# Altium schematic symbol library Schlib.SchLib: 24 symbols
Pins are listed as number, name and electrical type; pins without a type are passive.

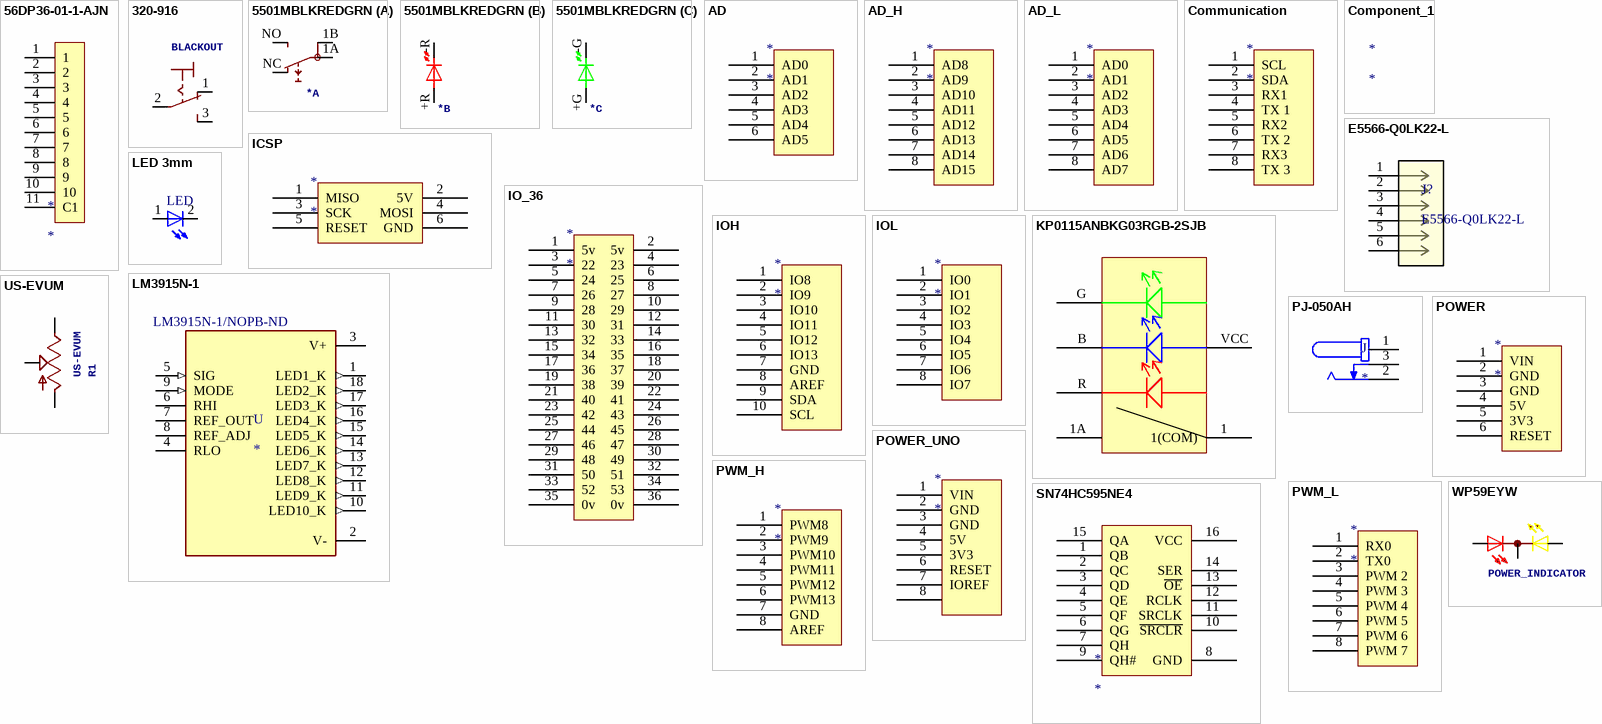
[diagram p0: symbols 56DP36-01-1-AJN to WP59EYW]

## 56DP36-01-1-AJN
designator *
Switch Rotary SP Flatted Shaft PC Pins 0.2A 115VAC 30VDC; Manufacturer 1: Grayhill; Manufacturer Part Number 1: 56DP36-01-1-AJN; Max Current Rating: 200mA; Voltage Rating (DC): 30V; Throw Configuration: SP,SP10T; Voltage Rating (AC): 115V; Contact Resistance: 15mR; Number of Poles: 1; Contact Style: Non-Shorting; Index Angle: 36°; Illumination Type: Illuminated; Index Stops: Adjustable; Actuator Length: 9.53mm; Supplier 1: Digi-Key; Stock 1: 1317; Pricing 1: 1=12.16000, 5=10.45800, 10=9.77800, 25=8.96720, 50=8.36600, 100=7.84320, 250=7.29600 (USD); RoHS: Yes; Mount: Through Hole,Panel; Number of Pins: 10; Housing Material: Plastic; Contact Material: Brass; Contact Plating: Silver; Max Voltage Rating (DC): 30V; Max Voltage Rating (AC): 115V; Contact Current Rating: 200mA; Number of Decks: 1; Number of Poles per Deck: 1; Termination: PC Pins; Orientation: Straight; Current Rating: 200mA; Actuator Type: Shaft; Diameter: 12.7mm; Length: 12.7mm; Depth: 12.7mm; REACH SVHC: No SVHC; Lead Free: Lead Free; ComponentLink1URL: https://datasheet.ciiva.com/15184/getdatasheetpartid-644553-15184288.pdf?src-supplier=Verical; ComponentLink1Description: https://datasheet.ciiva.com/15184/getdatasheetpartid-644553-15184288.pdf?src-supplier=Verical; ComponentLink2URL: https://datasheet.ciiva.com/2887/rotary-56-2887321.pdf?src-supplier=Digi-Key; ComponentLink2Description: https://datasheet.ciiva.com/2887/rotary-56-2887321.pdf?src-supplier=Digi-Key; ComponentLink3URL: https://datasheet.ciiva.com/1532/20298-1532172.pdf?src-supplier=Element14; ComponentLink3Description: https://datasheet.ciiva.com/1532/20298-1532172.pdf?src-supplier=Element14; ComponentLink4URL: https://datasheet.ciiva.com/30101/219rotary-561-30101036.pdf?src-supplier=Onlinecomponents.com; ComponentLink4Description: https://datasheet.ciiva.com/30101/219rotary-561-30101036.pdf?src-supplier=Onlinecomponents.com; Supplier Part Number 1: GH7281-ND
footprint 56DP36-01-1-AJN
pins: 1, 2, 3, 4, 5, 6, 7, 8, 9, 10, 11 C1

## 320-916
designator BLACKOUT, comment 5636AB9  (value not drawn)
SWITCH TOGGLE SPDT 6A 125V; Manufacturer 1: APEM; Manufacturer Part Number 1: 5636A9; Actuator Material: Nylon,Polyamide,Brass; Mechanical Life: 100000Cycles; Contact Current Rating: 4A; Voltage Rating (DC): 30V; Contact Resistance: 10mR; Max Voltage Rating (AC): 250V; Illumination Type: Non-Illuminated,Illuminated; Electrical Life: 50000Cycles; Switch Function: On-On; Actuator Length: 11.4mm; ComponentLink1URL: https://datasheet.ciiva.com/7986/94098-7986892.pdf?src-supplier=Element14; ComponentLink1Description: https://datasheet.ciiva.com/7986/94098-7986892.pdf?src-supplier=Element14; ComponentLink2URL: https://datasheet.ciiva.com/14142/03522208-14142796.pdf?src-supplier=Distrelec; ComponentLink2Description: https://datasheet.ciiva.com/14142/03522208-14142796.pdf?src-supplier=Distrelec; Supplier 1: Mouser; Stock 1: 294; Pricing 1: 1=8.04000, 25=7.62000, 50=7.19000, 100=6.98000, 250=5.92000, 500=5.71000 (USD); RoHS: Yes; Mount: Panel; Case/Package: 125; Housing Material: Stainless Steel; Contact Material: Silver; Min Operating Temperature: -40°C; Max Operating Temperature: 85°C; Voltage Rating (AC): 125V; Throw Configuration: SPDT; Package Quantity: 50; Current Rating: 4A; Packaging: Bulk; Max Current Rating: 6A; Max Voltage Rating (DC): 30V; Orientation: Straight; Termination: Solder; Length: 13.2mm; REACH SVHC: No SVHC; ComponentLink3URL: https://datasheet.ciiva.com/1533/1697793-1533110.pdf?src-supplier=Element14; ComponentLink3Description: https://datasheet.ciiva.com/1533/1697793-1533110.pdf?src-supplier=Element14; Supplier Part Number 1: 642-5636A9
footprint 320-916
pins: 1 O, 2 P, 3 S

## 5501MBLKREDGRN
designator *, comment 55?-2LED01  (value not drawn)
Pushbutton Switch SPDT Keyswitch, Illuminated Through Hole; Manufacturer 1: E-Switch; Manufacturer Part Number 1: 5501MBLKREDGRN; Mechanical Life: 500000Cycles; Illumination Type: LED; Actuator Type: Square, Button; Switch Function: On-Mom; Voltage Rating (DC): 12V; Current Rating: 300mA; Supplier 1: Digi-Key; Stock 1: 420; Pricing 1: 1=5.08000, 10=4.53000, 25=4.28800, 50=4.13420, 100=3.93620, 250=3.76028, 500=3.43044, 1000=3.25452 (USD); RoHS: Yes; Mount: Through Hole; Min Operating Temperature: -25°C; Max Operating Temperature: 65°C; Packaging: Bulk; Termination: PC Pin; Throw Configuration: SPDT; Package Quantity: 500; ComponentLink1URL: https://datasheet.ciiva.com/2870/xr0104p-2870260.pdf?src-supplier=Digi-Key; ComponentLink1Description: https://datasheet.ciiva.com/2870/xr0104p-2870260.pdf?src-supplier=Digi-Key; Supplier Part Number 1: EG171571-ND
footprint 5501-2LED
part A pins: 1A, 1B, NC, NO
part B pins: +R A, -R K
part C pins: +G A, -G K

## AD
designator *
footprint Header 6x1 8.5mm (Stackable 6 pin header)
pins: 1 AD0, 2 AD1, 3 AD2, 4 AD3, 5 AD4, 6 AD5

## AD_H
designator *
footprint Header 8x1 8.5mm (Stackable 8 pin header)
pins: 1 AD8, 2 AD9, 3 AD10, 4 AD11, 5 AD12, 6 AD13, 7 AD14, 8 AD15

## AD_L
designator *
footprint Header 8x1 8.5mm (Stackable 8 pin header)
pins: 1 AD0, 2 AD1, 3 AD2, 4 AD3, 5 AD4, 6 AD5, 7 AD6, 8 AD7

## Communication
designator *
footprint Header 8x1 8.5mm (Stackable 8 pin header)
pins: 1 SCL, 2 SDA, 3 RX1, 4 TX 1, 5 RX2, 6 TX 2, 7 RX3, 8 TX 3

## Component_1
designator *

## E5566-Q0LK22-L
designator J?
CONN MOD JACK 6P6C R/A UNSHLD; Manufacturer 1: Pulse; Built_By: EMA_Don; Vendor: Pulse Electronics Corporation; SourceLibrary: Pulse_Electronics_2018-08-17; Number of Ports: 1; Direction: Up; Number of Contacts: 6; Shielding: Unshielded; Pitch: 1.02mm; Copyright: Copyright (C) 2016 Accelerated Designs. All rights reserved; Manufacturer_Part_Number: E5566-Q0LK22-L; RefDes: RefDes; Type: DEV; Supplier 1: Digi-Key; Manufacturer Part Number 1: E5566-Q0LK22-L; Stock 1: 13841; Pricing 1: 1=0.54000, 10=0.51000, 25=0.45920, 50=0.40800, 100=0.39100, 250=0.35700, 500=0.34000, 1000=0.28050, 2500=0.25500 (USD); RoHS: Yes; Mount: Through Hole; Housing Material: Nylon; Contact Plating: Gold; Contact Material: Bronze; Min Operating Temperature: -40°C; Max Operating Temperature: 85°C; Termination: Solder; Packaging: Bulk; Package Quantity: 4080; Orientation: Right Angle; Number of Rows: 1; Connector Type: Jack; Radiation Hardening: No; ComponentLink1URL: https://datasheet.ciiva.com/686/+ce553027-lc-686555.pdf?src-supplier=Digi-Key; ComponentLink1Description: https://datasheet.ciiva.com/686/+ce553027-lc-686555.pdf?src-supplier=Digi-Key; Supplier Part Number 1: 553-2258-ND
footprint E5566Q0LK22L
pins: 1, 2, 3, 4, 5, 6

## ICSP
designator *
footprint ICSP
pins: 1 MISO, 2 5V (power), 3 SCK, 4 MOSI, 5 RESET, 6 GND (power)

## IO_36
designator *
footprint HEADER 36X 8MM (Stackable 10 pin header)
pins: 1 5v, 2 5v, 3 22 "Digital 22", 4 23 "Digital 23", 5 24 "Digital 24", 6 25 "Digital 25", 7 26 "Digital 26", 8 27 "Digital 27", 9 28 "Digital 28", 10 29 "Digital 29", 11 30 "Digital 30", 12 31 "Digital 31", 13 32 "Digital 32", 14 33 "Digital 33", 15 34 "Digital 34", 16 35 "Digital 35", 17 36 "Digital 36", 18 37 "Digital 37", 19 38 "Digital 38", 20 39 "Digital 39", 21 40 "Digital 40", 22 41 "Digital 41", 23 42 "Digital 42", 24 43 "Digital 43", 25 44 "Digital 44", 26 45 "Digital 45", 27 46 "Digital 46", 28 47 "Digital 47", 29 48 "Digital 48", 30 49 "Digital 49", 31 50 "Digital 50", 32 51 "Digital 51", 33 52 "Digital 52", 34 53 "Digital 53", 35 0v, 36 0v

## IOH
designator *
footprint Header 10x1 8.5mm (Stackable 10 pin header)
pins: 1 IO8, 2 IO9, 3 IO10, 4 IO11, 5 IO12, 6 IO13, 7 GND, 8 AREF, 9 SDA, 10 SCL

## IOL
designator *
footprint Header 8x1 8.5mm (Stackable 8 pin header)
pins: 1 IO0, 2 IO1, 3 IO2, 4 IO3, 5 IO4, 6 IO5, 7 IO6, 8 IO7

## KP0115ANBKG03RGB-2SJB
designator U$1  (value not drawn)
Pushbutton Switch SPST-NO Standard, Illuminated Through Hole; Manufacturer 1: NKK Switches; Actuator Material: Polyacetal; Mechanical Life: 5000000Cycles; Illumination Color: Blue,Green,Red; Throw Configuration: SPST; Max Current Rating: 100mA; Illumination Type: LED; Voltage Rating (DC): 12V; Actuator Type: Square, Button; Switch Function: Off-Mom; Supplier 1: Digi-Key; Manufacturer Part Number 1: KP0115ANBKG03RGB-2SJB; Stock 1: 22; Pricing 1: 1=20.27000, 10=18.40500, 25=17.57800, 50=16.64740, 100=16.02700, 250=14.99300, 500=12.40800 (USD); RoHS: Yes; Mount: Through Hole; Contact Material: Stainless Steel; Contact Plating: Gold; Housing Material: Glass fibre; Min Operating Temperature: -25°C; Max Operating Temperature: 50°C; Current Rating: 100mA; Package Quantity: 1; Packaging: Bulk; Max Voltage Rating (DC): 12V; Termination: PC Pins; Electrical Life: 5000000Cycles; Length: 17.4mm; Depth: 17.4mm; Lead Free: Lead Free; ComponentLink1URL: https://datasheet.ciiva.com/16864/70192969-16864678.pdf?src-supplier=Allied+Electronics; ComponentLink1Description: https://datasheet.ciiva.com/16864/70192969-16864678.pdf?src-supplier=Allied+Electronics; ComponentLink2URL: https://datasheet.ciiva.com/2870/kp01-2870071.pdf?src-supplier=Digi-Key; ComponentLink2Description: https://datasheet.ciiva.com/2870/kp01-2870071.pdf?src-supplier=Digi-Key; Supplier Part Number 1: 360-2465-ND
footprint KP0115ANBKG03RGB-2SJB
pins: 1 1(COM), 1A, B B(-), G G(-), R R(-), VCC 3V3

## LED 3mm
designator LED  (value not drawn)
LED RED DIFFUSED T-1 3/4 T/H; Manufacturer 1: Kingbright; Manufacturer Part Number 1: WP7113ID; Forward Voltage: 2V; Luminous Intensity: 45mcd; Dominant Wavelength: 625nm; Test Current: 10mA; Viewing Angle: 30°; Lens Style: Diffused,Tinted,Dome,Round; ComponentLink1URL: https://datasheet.ciiva.com/15117/getdatasheetpartid-103986-15117447.pdf?src-supplier=Verical; ComponentLink1Description: https://datasheet.ciiva.com/15117/getdatasheetpartid-103986-15117447.pdf?src-supplier=Verical; ComponentLink2URL: https://datasheet.ciiva.com/25764/ltst-c170tbkt-25764828.pdf?src-supplier=Allied+Electronics; ComponentLink2Description: https://datasheet.ciiva.com/25764/ltst-c170tbkt-25764828.pdf?src-supplier=Allied+Electronics; ComponentLink3URL: https://datasheet.ciiva.com/12400/lite-on-ltst-c170tbkt-190169-12400787.pdf?src-supplier=Mouser; ComponentLink3Description: https://datasheet.ciiva.com/12400/lite-on-ltst-c170tbkt-190169-12400787.pdf?src-supplier=Mouser; ComponentLink4URL: https://datasheet.ciiva.com/27055/1996161-27055955.pdf?src-supplier=Jameco; ComponentLink4Description: https://datasheet.ciiva.com/27055/1996161-27055955.pdf?src-supplier=Jameco; ComponentLink5URL: https://datasheet.ciiva.com/11773/0900766b80dc0281-11773879.pdf?src-supplier=RSComponents; ComponentLink5Description: https://datasheet.ciiva.com/11773/0900766b80dc0281-11773879.pdf?src-supplier=RSComponents; ComponentLink6URL: https://datasheet.ciiva.com/16199/lite-on20ltst-c170tbkt-16199611.pdf?src-supplier=Future+Electronics; ComponentLink6Description: https://datasheet.ciiva.com/16199/lite-on20ltst-c170tbkt-16199611.pdf?src-supplier=Future+Electronics; ComponentLink7URL: https://datasheet.ciiva.com/2110/s-110-ltst-c170tbkt-2110488.pdf?src-supplier=Digi-Key; ComponentLink7Description: https://datasheet.ciiva.com/2110/s-110-ltst-c170tbkt-2110488.pdf?src-supplier=Digi-Key; ComponentLink8URL: https://datasheet.ciiva.com/2110/s-110-ltst-c170tbkt-2110489.pdf?src-supplier=Digi-Key; ComponentLink8Description: https://datasheet.ciiva.com/2110/s-110-ltst-c170tbkt-2110489.pdf?src-supplier=Digi-Key; ComponentLink9URL: https://datasheet.ciiva.com/2110/s-110-ltst-c170tbkt-2110490.pdf?src-supplier=Digi-Key; ComponentLink9Description: https://datasheet.ciiva.com/2110/s-110-ltst-c170tbkt-2110490.pdf?src-supplier=Digi-Key; Supplier 1: Digi-Key; Stock 1: 100478; Pricing 1: 1=0.48000, 10=0.34200, 100=0.15200, 500=0.10640, 1000=0.08740, 2500=0.07600, 5000=0.06840, 10000=0.06080, 25000=0.05700 (USD); RoHS: Yes; Mount: Through Hole; Case/Package: Radial; Color: Red; Lens Color: Red; Illumination Color: Red; Wavelength: 625nm; Package Quantity: 1000; Packaging: Bulk; Height: 8.6mm; Lead Free: Lead Free; ComponentLink10URL: https://datasheet.ciiva.com/4692/wp7113id-48891-4692862.pdf?src-supplier=Mouser; ComponentLink10Description: https://datasheet.ciiva.com/4692/wp7113id-48891-4692862.pdf?src-supplier=Mouser; ComponentLink11URL: https://datasheet.ciiva.com/2114/wp7113id-2114384.pdf?src-supplier=Digi-Key; ComponentLink11Description: https://datasheet.ciiva.com/2114/wp7113id-2114384.pdf?src-supplier=Digi-Key; ComponentLink12URL: https://datasheet.ciiva.com/16210/wp7113id-16210118.pdf?src-supplier=Future+Electronics; ComponentLink12Description: https://datasheet.ciiva.com/16210/wp7113id-16210118.pdf?src-supplier=Future+Electronics; Supplier Part Number 1: 754-1264-ND
footprint LED3mm (LED3MM)
pins: 1, 2

## LM3915N-1
designator U  Supplier Part Number 1: LM3915N-1/NOPB-ND
LED, LCD, Vacuum Fluorescent _VF_ Driver 18-DIP; Manufacturer 1: TI National Semiconductor; Manufacturer Part Number 1: LM3915N-1/NOPB; MF: Texas Instruments; MP: LM3915N-1; Output Current: 30mA; Output Voltage: 1.28V; Max Output Voltage: 1.34V; Min Supply Voltage: 3V; Max Supply Voltage: 25V; Max Power Dissipation: 1.365W; Number of Outputs: 10; Nominal Supply Current: 9.2mA; SnapEDA_Link: https://www.snapeda.com/parts/LM3915N-1/Texas%20Instruments/view-part/490766/?ref=snap; Price: None; Availability: Unavailable; Package: DIP-18 Texas Instruments; Value: *; Supplier 1: Digi-Key; Stock 1: 0; RoHS: Yes; Mount: Through Hole; Case/Package: PDIP; Number of Pins: 18; Weight: 0.01lb; Contact Plating: Tin,Matte; Min Operating Temperature: 0°C; Max Operating Temperature: 70°C; Packaging: Rail/Tube; Min Input Voltage: 3V; Max Input Voltage: 25V; Package Quantity: 20; Number of Segments: 10; Max Supply Current: 9.2mA; Power Dissipation: 1.365W; Termination: Through Hole; Display Type: LCD; Length: 22.86mm; Height: 3.9mm; Width: 6.35mm; Radiation Hardening: No; REACH SVHC: No SVHC; Lead Free: Contains Lead; ComponentLink1URL: https://datasheet.ciiva.com/19456/839885-19456624.pdf?src-supplier=Jameco; ComponentLink1Description: https://datasheet.ciiva.com/19456/839885-19456624.pdf?src-supplier=Jameco; ComponentLink2URL: https://datasheet.ciiva.com/1603/9060-1603620.pdf?src-supplier=Newark; ComponentLink2Description: https://datasheet.ciiva.com/1603/9060-1603620.pdf?src-supplier=Newark; ComponentLink3URL: https://datasheet.ciiva.com/4426/snvs740b-74147-4426901.pdf?src-supplier=Mouser; ComponentLink3Description: https://datasheet.ciiva.com/4426/snvs740b-74147-4426901.pdf?src-supplier=Mouser; ComponentLink4URL: https://datasheet.ciiva.com/14094/lclm3915-e-14094454.pdf?src-supplier=Distrelec; ComponentLink4Description: https://datasheet.ciiva.com/14094/lclm3915-e-14094454.pdf?src-supplier=Distrelec; ComponentLink5URL: https://datasheet.ciiva.com/15135/getdatasheetpartid-628002-15135052.pdf?src-supplier=Verical; ComponentLink5Description: https://datasheet.ciiva.com/15135/getdatasheetpartid-628002-15135052.pdf?src-supplier=Verical; ComponentLink6URL: https://datasheet.ciiva.com/3163/lm3915-3163765.pdf?src-supplier=Avnet; ComponentLink6Description: https://datasheet.ciiva.com/3163/lm3915-3163765.pdf?src-supplier=Avnet; ComponentLink7URL: https://datasheet.ciiva.com/6613/lm3915-6613815.pdf?src-supplier=Digi-Key; ComponentLink7Description: https://datasheet.ciiva.com/6613/lm3915-6613815.pdf?src-supplier=Digi-Key; ComponentLink8URL: https://datasheet.ciiva.com/8064/1762918-8064378.pdf?src-supplier=Element14; ComponentLink8Description: https://datasheet.ciiva.com/8064/1762918-8064378.pdf?src-supplier=Element14; ComponentLink9URL: https://datasheet.ciiva.com/41458/001014112-da-01-en-ic-driver-dot-lm3915n-1-nopb-pdip-18-tid-41458330.pdf?src-supplier=Conrad; ComponentLink9Description: https://datasheet.ciiva.com/41458/001014112-da-01-en-ic-driver-dot-lm3915n-1-nopb-pdip-18-tid-41458330.pdf?src-supplier=Conrad
footprint DIP795W25P254L2337H533Q18B
pins: 1 LED1_K (out), 2 V- (power), 3 V+ (power), 4 RLO, 5 SIG (in), 6 RHI, 7 REF_OUT, 8 REF_ADJ, 9 MODE (in), 10 LED10_K (out), 11 LED9_K (out), 12 LED8_K (out), 13 LED7_K (out), 14 LED6_K (out), 15 LED5_K (out), 16 LED4_K (out), 17 LED3_K (out), 18 LED2_K (out)

## PJ-050AH
designator J
2.0 x 6.0 mm, 5.0 A, Horizontal, Through Hole, Pick-n-Place Top, Dc Power Jack Connector; Manufacturer 1: CUI; MF: CUI Devices; MP: PJ-050AH; Voltage Rating: 24V; Gender: Male; Shielding: Unshielded; Current Rating: 5A; Number of Conductors: 2; Insulation Resistance: 100MR; Package: None; Value: *; Price: None; SnapEDA_Link: https://www.snapeda.com/parts/PJ-050AH/CUI%20Devices/view-part/281220/?ref=snap; Availability: Unavailable; Supplier 1: Digi-Key; Manufacturer Part Number 1: PJ-050AH; Stock 1: 5226; Pricing 1: 1=0.78000, 10=0.68900, 25=0.64800, 50=0.62100, 100=0.59400, 250=0.54000, 500=0.48600, 1000=0.43200, 2500=0.39150 (USD); RoHS: Yes; Mount: Through Hole; Housing Material: Thermoplastic; Contact Plating: Nickel; Color: Black; Contact Material: Copper; Housing Color: Black; Min Operating Temperature: -25°C; Max Operating Temperature: 85°C; Package Quantity: 500; Termination: Solder; Connector Type: Jack; Orientation: Horizontal; Contact Gender: Male; Lead Free: Lead Free; Flammability Rating: UL94 V-0; ComponentLink1URL: http://www.mouser.com/ds/2/670/PJ-050AH-524150.pdf?src-supplier=Mouser; ComponentLink1Description: http://www.mouser.com/ds/2/670/PJ-050AH-524150.pdf?src-supplier=Mouser; ComponentLink2URL: https://www.cui.com/product/resource/digikeypdf/pj-050ah.pdf?src-supplier=Digi-Key; ComponentLink2Description: https://www.cui.com/product/resource/digikeypdf/pj-050ah.pdf?src-supplier=Digi-Key; Supplier Part Number 1: CP-050AH-ND
footprint CUI_PJ-050AH
pins: 1, 2, 3

## POWER
designator *
footprint Header 6x1 8.5mm (Stackable 6 pin header)
pins: 1 VIN (power), 2 GND (power), 3 GND (power), 4 5V (power), 5 3V3 (power), 6 RESET

## POWER_UNO
designator *
footprint Header 8x1 8.5mm (Stackable 8 pin header)
pins: 1 VIN (power), 2 GND (power), 3 GND (power), 4 5V (power), 5 3V3 (power), 6 RESET, 7 IOREF (power), 8

## PWM_H
designator *
footprint Header 8x1 8.5mm (Stackable 8 pin header)
pins: 1 PWM8 "PWM 8", 2 PWM9 "PWM 9", 3 PWM10 "PWM 10", 4 PWM11 "PWM 11", 5 PWM12 "PWM 12", 6 PWM13 "PWM 13", 7 GND, 8 AREF

## PWM_L
designator *
footprint Header 8x1 8.5mm (Stackable 8 pin header)
pins: 1 RX0 "PWM 0 & RX0", 2 TX0 "PWM 1 & TX0", 3 PWM 2, 4 PWM 3, 5 PWM 4, 6 PWM 5, 7 PWM 6, 8 PWM 7

## SN74HC595NE4
designator *
Counter Shift Registers 8-Bit Shift Register; Manufacturer 1: Texas Instruments; Manufacturer Part Number 1: SN74HC595NE4; Number of Circuits: 4; Number of Output Lines: 10; Number of Bits per Element: 8; Turn-On Delay Time: 250ns; Max Supply Voltage: 6V; Operating Supply Voltage: 5V; Min Supply Voltage: 2V; Number of Elements: 1; Direction: Unidirectional; Supplier 1: Digi-Key; Stock 1: 1779; Pricing 1: 1=0.57000, 10=0.48800, 25=0.45520, 100=0.36400, 250=0.33800, 500=0.28600, 1000=0.22100, 2500=0.20150, 5000=0.18850 (USD); RoHS: Yes; Mount: Through Hole; Case/Package: PDIP; Number of Pins: 16; Weight: 0.03357oz; Min Operating Temperature: -40°C; Max Operating Temperature: 85°C; Number of Bits: 8; Package Quantity: 25; Packaging: Rail/Tube; Propagation Delay: 250ns; Logic Function: Shift Register; Radiation Hardening: No; Lead Free: Lead Free; ComponentLink1URL: https://datasheet.ciiva.com/15093/getdatasheetpartid-37319-15093075.pdf?src-supplier=Verical; ComponentLink1Description: https://datasheet.ciiva.com/15093/getdatasheetpartid-37319-15093075.pdf?src-supplier=Verical; ComponentLink2URL: https://datasheet.ciiva.com/18575/sn74hc595-18575023.pdf?src-supplier=Digi-Key; ComponentLink2Description: https://datasheet.ciiva.com/18575/sn74hc595-18575023.pdf?src-supplier=Digi-Key; Supplier Part Number 1: 296-36142-5-ND
footprint DIP794W53P254L1930H508Q16N
pins: 1 QB, 2 QC, 3 QD, 4 QE, 5 QF, 6 QG, 7 QH, 8 GND, 9 QH#, 10 ~{SRCLR}, 11 SRCLK, 12 RCLK, 13 ~{OE}, 14 SER, 15 QA, 16 VCC

## US-EVUM
designator R1
10k Ohm 1 Gang Linear Panel Mount Potentiometer Detent 1 Kierros  0.05W, 1/20W PC Pins, Board Locks; Manufacturer 1: Panasonic; Manufacturer Part Number 1: EVU-F3MFL3B14; GateName_1: G$1; SymbolName_1: POT_US-; DeviceName: M; DeviceSetName: US-EVU; Tolerance: 20%; Voltage Rating: 250V; Power Rating: 50mW; Resistance: 10kR; Number of Gangs: 1; Actuator Length: 0.846inch; Actuator Diameter: 0.236inch; LibraryName: pot; Supplier 1: Digi-Key; Stock 1: 154; Pricing 1: 1=1.85000, 10=1.15000, 25=0.95240, 50=0.82340, 100=0.70840 (USD); RoHS: Yes; Mount: Panel,Brackets; Case/Package: Metal; Weight: 0.1lb; Type: Potentiometer; Packaging: Bulk; Package Quantity: 2000; Voltage Rating (DC): 250V; Composition: Potentiometer; Max Power Dissipation: 50mW; Termination: Pin; Taper: Linear; Number of Turns: 1; Length: 1inch; Height: 0.25inch; Width: 0.25inch; Radiation Hardening: No; Lead Free: Lead Free; REACH SVHC: Unknown; ComponentLink1URL: https://datasheet.ciiva.com/30236/aok0000ce4-30236166.pdf?src-supplier=Onlinecomponents.com; ComponentLink1Description: https://datasheet.ciiva.com/30236/aok0000ce4-30236166.pdf?src-supplier=Onlinecomponents.com; ComponentLink2URL: https://datasheet.ciiva.com/16928/70270572-16928811.pdf?src-supplier=Allied+Electronics; ComponentLink2Description: https://datasheet.ciiva.com/16928/70270572-16928811.pdf?src-supplier=Allied+Electronics; Supplier Part Number 1: P3E5103-ND
footprint EVUFXM
pins: 1 A, 2 S, 3 E

## WP59EYW
designator POWER_INDICATOR  (value not drawn)
Red, Yellow 617nm Red, 588nm Yellow LED Indication - Discrete 2V Red, 2.1V Yellow Radial - 3 Leads; Manufacturer 1: Kingbright; Lens Color: White; Test Current: 20mA; Forward Current: 30mA; Number of LEDs: 1; Lens Style: Dome,Diffused,Round; Viewing Angle: 60°; Luminous Intensity: 40mcd; Wavelength: 568nm; Supplier 1: Digi-Key; Manufacturer Part Number 1: WP59EYW; Stock 1: 1988; Pricing 1: 1=0.62000, 10=0.44600, 100=0.29120, 500=0.20930, 1000=0.16380, 2500=0.15015, 5000=0.13650, 10000=0.12740, 25000=0.12285 (USD); RoHS: Yes; Mount: Through Hole; Case/Package: Radial; Number of Pins: 5; Color: Red,Yellow; Min Operating Temperature: -40°C; Max Operating Temperature: 85°C; Dominant Wavelength: 588nm; Forward Voltage: 2.1V; Package Quantity: 500; Illumination Color: Red,Yellow; Packaging: Bulk; Height: 8.6mm; Lead Free: Lead Free; ComponentLink1URL: https://datasheet.ciiva.com/16366/wp59eyw-16366834.pdf?src-supplier=Future+Electronics; ComponentLink1Description: https://datasheet.ciiva.com/16366/wp59eyw-16366834.pdf?src-supplier=Future+Electronics; ComponentLink2URL: https://datasheet.ciiva.com/13500/wp59eyw-45838-13500845.pdf?src-supplier=Mouser; ComponentLink2Description: https://datasheet.ciiva.com/13500/wp59eyw-45838-13500845.pdf?src-supplier=Mouser; ComponentLink3URL: https://datasheet.ciiva.com/14604/70062955-14604373.pdf?src-supplier=Allied+Electronics; ComponentLink3Description: https://datasheet.ciiva.com/14604/70062955-14604373.pdf?src-supplier=Allied+Electronics; Supplier Part Number 1: 754-1233-ND
footprint DUOLED-C-5MM (Footprint not found)
pins: 1, 2, 3